# Altium schematic symbol library ERJ1GN0R00C.SchLib: 2 symbols
Pins are listed as number, name and electrical type; pins without a type are passive.

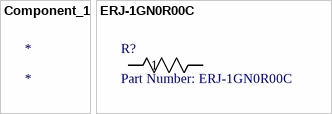
[diagram p0: symbols Component_1 to ERJ-1GN0R00C]

## Component_1
designator *

## ERJ-1GN0R00C
designator R?, comment Part Number: ERJ-1GN0R00C
No Description Available; Vendor: Panasonic; Built_By: EMA_UL_Team; Manufacturer_Part_Number: ERJ-1GN0R00C; Copyright: Copyright (C) 2018 Accelerated Designs. All rights reserved; RefDes: RefDes; Type: DEV; Value: Value
footprint 0201
pins: 1, 2